# EAGLE library part EC2-12NU (library SamacSys_Parts)
DPDT PCB Mount Non-Latching Relay 2 A, 12V dc Source: Datasheet <https://componentsearchengine.com/Datasheets/1/EC2-12NU.pdf>
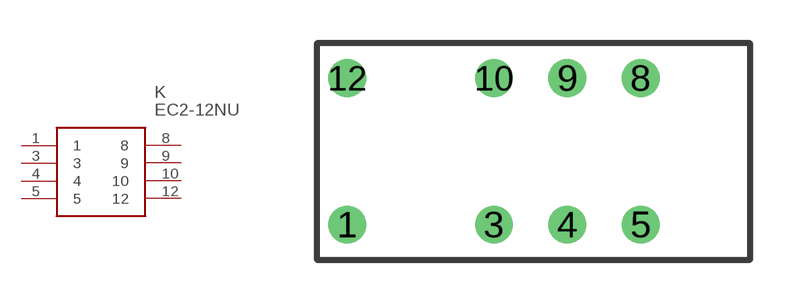
[diagram p2: symbol with the pads of EC2-12NU; footprint EC2-12NU]

Designator prefix K

## EC2-12NU (Description: DPDT PCB Mount Non-Latching Relay 2 A, 12V dc; Height: mm; Manufacturer_Name: Kemet; Manufacturer_Part_Number: EC2-12NU; Mouser_Part_Number: 80-EC2-12NU)  [EC2-12NU]
1  1
3  3
4  4
5  5
8  8
9  9
10  10
12  12

## Footprint EC2-12NU (pad centres in mm)
EC2-12NU
drill 0.8 pad 1.3: 1 1.05,-2.54; 3 6.13,-2.54; 4 8.67,-2.54; 5 11.21,-2.54; 8 11.21,2.54; 9 8.67,2.54; 10 6.13,2.54; 12 1.05,2.54